# Altium schematic symbol library 14AWG_HOLES.SchLib: 1 symbol
Pins are listed as number, name and electrical type; pins without a type are passive.

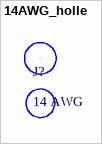
[diagram p0: symbol 14AWG_holle]

## 14AWG_holle
designator J?, comment 14 AWG
footprint 14AWG_holes
pins: 1 "12v", 2 "12v"